# Altium schematic symbol library kmilo17pet-NSC_Amplifier.SchLib: 1665 symbols (part 9 of 44)
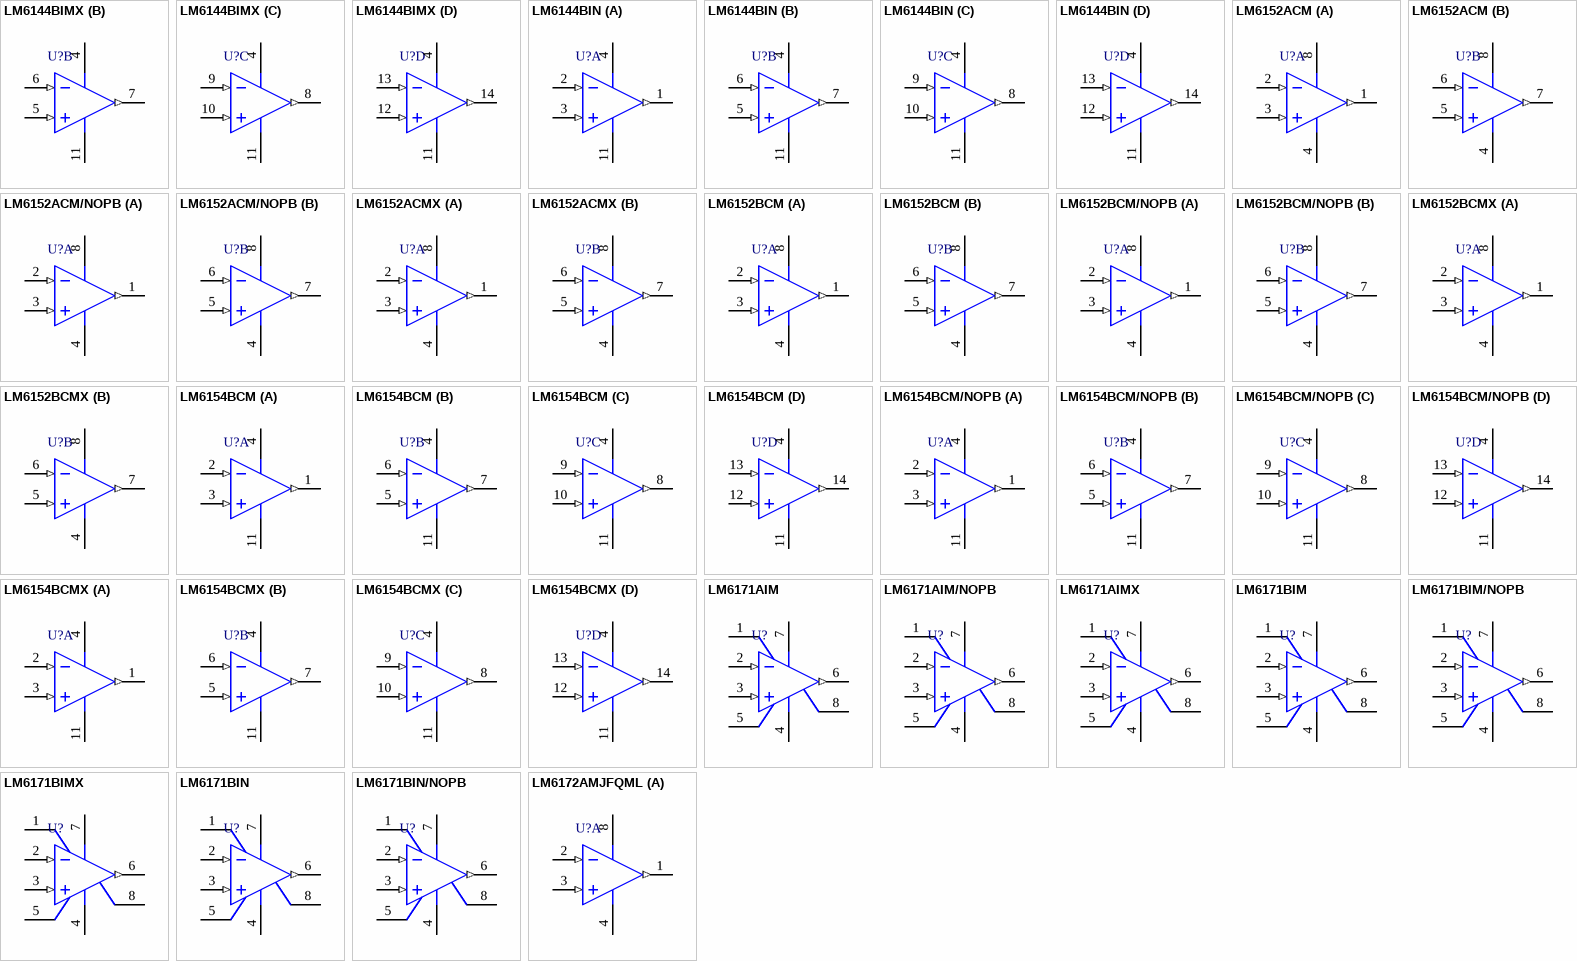
[diagram p92: symbols LM6144BIMX to LM6172AMJFQML]

## LM6154BCM
designator U?
Dual and Quad 75 MHz GBW Rail-to-Rail I/O Operational Amplifiers, 14-pin Narrow SOIC; PartNumber: LM6154BCM; Manufacturer: National Semiconductor; PackageTopMarking: NSUZXYTTE#*LM6154BCM; PowerWise: Y; DatasheetVersion: Feb-2006; PackageVersion: revJ, Jan-1996; PackageReference: M14A; PackageDescription: Molded Package S.O., .150in Wide, 14 Lead; RoHS: N; PinCount: 14; CompType: Amplifiers; High-Reliability: Y; Code_JEDEC: MS-012AB; Code_IPC: SOIC127P600-14; ComponentLink1Description: Manufacturer URL; ComponentLink1URL: http://www.national.com/; ComponentLink2Description: LM6154 Datasheet; ComponentLink2URL: http://www.national.com/ds/LM/LM6154.pdf; ComponentLink3Description: LM6154 Web Page; ComponentLink3URL: http://www.national.com/pf/LM/LM6154.html; ComponentLink4Description: M14A Package Page; ComponentLink4URL: http://www.national.com/packaging/folders/m14a.html
footprint M14A_N (SOIC, 14-Leads, Body 8.6x3.9mm, Pitch 1.27mm, IPC Medium Density)
footprint M14A_L (SOIC, 14-Leads, Body 8.6x3.9mm, Pitch 1.27mm, IPC High Density)
footprint M14A_M (SOIC, 14-Leads, Body 8.6x3.9mm, Pitch 1.27mm, IPC Low Density)
pins on every part: 4 V+ (power), 11 V- (power)
part A pins: 1 OUTA (out), 2 INA- (in), 3 INA+ (in)
part B pins: 5 INB+ (in), 6 INB- (in), 7 OUTB (out)
part C pins: 8 OUTC (out), 9 INC- (in), 10 INC+ (in)
part D pins: 12 IND+ (in), 13 IND- (in), 14 OUTD (out)

## LM6154BCM/NOPB
designator U?
Dual and Quad 75 MHz GBW Rail-to-Rail I/O Operational Amplifiers, 14-pin Narrow SOIC, Pb-Free; PartNumber: LM6154BCM/NOPB; Manufacturer: National Semiconductor; PackageTopMarking: NSUZXYTTE#*LM6154BCM; PowerWise: Y; DatasheetVersion: Feb-2006; PackageVersion: revJ, Jan-1996; PackageReference: M14A; PackageDescription: Molded Package S.O., .150in Wide, 14 Lead; RoHS: Y; PinCount: 14; CompType: Amplifiers; High-Reliability: Y; Code_JEDEC: MS-012AB; Code_IPC: SOIC127P600-14; ComponentLink1Description: Manufacturer URL; ComponentLink1URL: http://www.national.com/; ComponentLink2Description: LM6154 Datasheet; ComponentLink2URL: http://www.national.com/ds/LM/LM6154.pdf; ComponentLink3Description: LM6154 Web Page; ComponentLink3URL: http://www.national.com/pf/LM/LM6154.html; ComponentLink4Description: M14A Package Page; ComponentLink4URL: http://www.national.com/packaging/folders/m14a.html
footprint M14A_N (SOIC, 14-Leads, Body 8.6x3.9mm, Pitch 1.27mm, IPC Medium Density)
footprint M14A_L (SOIC, 14-Leads, Body 8.6x3.9mm, Pitch 1.27mm, IPC High Density)
footprint M14A_M (SOIC, 14-Leads, Body 8.6x3.9mm, Pitch 1.27mm, IPC Low Density)
pins on every part: 4 V+ (power), 11 V- (power)
part A pins: 1 OUTA (out), 2 INA- (in), 3 INA+ (in)
part B pins: 5 INB+ (in), 6 INB- (in), 7 OUTB (out)
part C pins: 8 OUTC (out), 9 INC- (in), 10 INC+ (in)
part D pins: 12 IND+ (in), 13 IND- (in), 14 OUTD (out)

## LM6154BCMX
designator U?
Dual and Quad 75 MHz GBW Rail-to-Rail I/O Operational Amplifiers, 14-pin Narrow SOIC; PartNumber: LM6154BCMX; Manufacturer: National Semiconductor; PackageTopMarking: NSUZXYTTE#*LM6154BCM; PowerWise: Y; DatasheetVersion: Feb-2006; PackageVersion: revJ, Jan-1996; PackageReference: M14A; PackageDescription: Molded Package S.O., .150in Wide, 14 Lead; RoHS: N; PinCount: 14; CompType: Amplifiers; High-Reliability: Y; Code_JEDEC: MS-012AB; Code_IPC: SOIC127P600-14; ComponentLink1Description: Manufacturer URL; ComponentLink1URL: http://www.national.com/; ComponentLink2Description: LM6154 Datasheet; ComponentLink2URL: http://www.national.com/ds/LM/LM6154.pdf; ComponentLink3Description: LM6154 Web Page; ComponentLink3URL: http://www.national.com/pf/LM/LM6154.html; ComponentLink4Description: M14A Package Page; ComponentLink4URL: http://www.national.com/packaging/folders/m14a.html
footprint M14A_N (SOIC, 14-Leads, Body 8.6x3.9mm, Pitch 1.27mm, IPC Medium Density)
footprint M14A_L (SOIC, 14-Leads, Body 8.6x3.9mm, Pitch 1.27mm, IPC High Density)
footprint M14A_M (SOIC, 14-Leads, Body 8.6x3.9mm, Pitch 1.27mm, IPC Low Density)
pins on every part: 4 V+ (power), 11 V- (power)
part A pins: 1 OUTA (out), 2 INA- (in), 3 INA+ (in)
part B pins: 5 INB+ (in), 6 INB- (in), 7 OUTB (out)
part C pins: 8 OUTC (out), 9 INC- (in), 10 INC+ (in)
part D pins: 12 IND+ (in), 13 IND- (in), 14 OUTD (out)

## LM6171AIM
designator U?
High Speed Low Power Low Distortion Voltage Feedback Amplifier, 8-pin Narrow SOIC; PartNumber: LM6171AIM; Manufacturer: National Semiconductor; PackageTopMarking: NSZXTT*LM61*71AIM; PowerWise: Y; CompType: Amplifiers; DatasheetVersion: Feb-2003; PackageVersion: revM, May-2009; PackageReference: M08A; PackageDescription: SOIC Narrow, 4.9 x 3.9 x 1.45mm, 8 Lead, 1.27mm Pitch; RoHS: N; PinCount: 8; High-Reliability: Y; Code_JEDEC: MS-012-AA; Code_IPC: SOIC127P600-8; ComponentLink1Description: Manufacturer URL; ComponentLink1URL: http://www.national.com/; ComponentLink2Description: LM6171 Datasheet; ComponentLink2URL: http://www.national.com/ds/LM/LM6171.pdf; ComponentLink3Description: LM6171 Web Page; ComponentLink3URL: http://www.national.com/pf/LM/LM6171.html; ComponentLink4Description: M08A Package Page; ComponentLink4URL: http://www.national.com/packaging/folders/m08a.html
footprint M08A_N (SOIC, 8-Leads, Body 4.9x3.9mm, Pitch 1.27mm, IPC Medium Density)
footprint M08A_L (SOIC, 8-Leads, Body 4.9x3.9mm, Pitch 1.27mm, IPC High Density)
footprint M08A_M (SOIC, 8-Leads, Body 4.9x3.9mm, Pitch 1.27mm, IPC Low Density)
pins: 1 NC, 2 IN- (in), 3 IN+ (in), 4 V- (power), 5 NC, 6 OUT (out), 7 V+ (power), 8 NC

## LM6171AIM/NOPB
designator U?
High Speed Low Power Low Distortion Voltage Feedback Amplifier, 8-pin Narrow SOIC, Pb-Free; PartNumber: LM6171AIM/NOPB; Manufacturer: National Semiconductor; PackageTopMarking: NSZXTT*LM61*71AIM; PowerWise: Y; CompType: Amplifiers; DatasheetVersion: Feb-2003; PackageVersion: revM, May-2009; PackageReference: M08A; PackageDescription: SOIC Narrow, 4.9 x 3.9 x 1.45mm, 8 Lead, 1.27mm Pitch; RoHS: Y; PinCount: 8; High-Reliability: Y; Code_JEDEC: MS-012-AA; Code_IPC: SOIC127P600-8; ComponentLink1Description: Manufacturer URL; ComponentLink1URL: http://www.national.com/; ComponentLink2Description: LM6171 Datasheet; ComponentLink2URL: http://www.national.com/ds/LM/LM6171.pdf; ComponentLink3Description: LM6171 Web Page; ComponentLink3URL: http://www.national.com/pf/LM/LM6171.html; ComponentLink4Description: M08A Package Page; ComponentLink4URL: http://www.national.com/packaging/folders/m08a.html
footprint M08A_N (SOIC, 8-Leads, Body 4.9x3.9mm, Pitch 1.27mm, IPC Medium Density)
footprint M08A_L (SOIC, 8-Leads, Body 4.9x3.9mm, Pitch 1.27mm, IPC High Density)
footprint M08A_M (SOIC, 8-Leads, Body 4.9x3.9mm, Pitch 1.27mm, IPC Low Density)
pins: 1 NC, 2 IN- (in), 3 IN+ (in), 4 V- (power), 5 NC, 6 OUT (out), 7 V+ (power), 8 NC

## LM6171AIMX
designator U?
High Speed Low Power Low Distortion Voltage Feedback Amplifier, 8-pin Narrow SOIC; PartNumber: LM6171AIMX; Manufacturer: National Semiconductor; PackageTopMarking: NSZXTT*LM61*71AIM; PowerWise: Y; CompType: Amplifiers; DatasheetVersion: Feb-2003; PackageVersion: revM, May-2009; PackageReference: M08A; PackageDescription: SOIC Narrow, 4.9 x 3.9 x 1.45mm, 8 Lead, 1.27mm Pitch; RoHS: N; PinCount: 8; High-Reliability: Y; Code_JEDEC: MS-012-AA; Code_IPC: SOIC127P600-8; ComponentLink1Description: Manufacturer URL; ComponentLink1URL: http://www.national.com/; ComponentLink2Description: LM6171 Datasheet; ComponentLink2URL: http://www.national.com/ds/LM/LM6171.pdf; ComponentLink3Description: LM6171 Web Page; ComponentLink3URL: http://www.national.com/pf/LM/LM6171.html; ComponentLink4Description: M08A Package Page; ComponentLink4URL: http://www.national.com/packaging/folders/m08a.html
footprint M08A_N (SOIC, 8-Leads, Body 4.9x3.9mm, Pitch 1.27mm, IPC Medium Density)
footprint M08A_L (SOIC, 8-Leads, Body 4.9x3.9mm, Pitch 1.27mm, IPC High Density)
footprint M08A_M (SOIC, 8-Leads, Body 4.9x3.9mm, Pitch 1.27mm, IPC Low Density)
pins: 1 NC, 2 IN- (in), 3 IN+ (in), 4 V- (power), 5 NC, 6 OUT (out), 7 V+ (power), 8 NC

## LM6171BIM
designator U?
High Speed Low Power Low Distortion Voltage Feedback Amplifier, 8-pin Narrow SOIC; PartNumber: LM6171BIM; Manufacturer: National Semiconductor; PackageTopMarking: NSZXTT*LM61*71BIM; PowerWise: Y; CompType: Amplifiers; DatasheetVersion: Feb-2003; PackageVersion: revM, May-2009; PackageReference: M08A; PackageDescription: SOIC Narrow, 4.9 x 3.9 x 1.45mm, 8 Lead, 1.27mm Pitch; RoHS: N; PinCount: 8; High-Reliability: Y; Code_JEDEC: MS-012-AA; Code_IPC: SOIC127P600-8; ComponentLink1Description: Manufacturer URL; ComponentLink1URL: http://www.national.com/; ComponentLink2Description: LM6171 Datasheet; ComponentLink2URL: http://www.national.com/ds/LM/LM6171.pdf; ComponentLink3Description: LM6171 Web Page; ComponentLink3URL: http://www.national.com/pf/LM/LM6171.html; ComponentLink4Description: M08A Package Page; ComponentLink4URL: http://www.national.com/packaging/folders/m08a.html
footprint M08A_N (SOIC, 8-Leads, Body 4.9x3.9mm, Pitch 1.27mm, IPC Medium Density)
footprint M08A_L (SOIC, 8-Leads, Body 4.9x3.9mm, Pitch 1.27mm, IPC High Density)
footprint M08A_M (SOIC, 8-Leads, Body 4.9x3.9mm, Pitch 1.27mm, IPC Low Density)
pins: 1 NC, 2 IN- (in), 3 IN+ (in), 4 V- (power), 5 NC, 6 OUT (out), 7 V+ (power), 8 NC

## LM6171BIM/NOPB
designator U?
High Speed Low Power Low Distortion Voltage Feedback Amplifier, 8-pin Narrow SOIC, Pb-Free; PartNumber: LM6171BIM/NOPB; Manufacturer: National Semiconductor; PackageTopMarking: NSZXTT*LM61*71BIM; PowerWise: Y; CompType: Amplifiers; DatasheetVersion: Feb-2003; PackageVersion: revM, May-2009; PackageReference: M08A; PackageDescription: SOIC Narrow, 4.9 x 3.9 x 1.45mm, 8 Lead, 1.27mm Pitch; RoHS: Y; PinCount: 8; High-Reliability: Y; Code_JEDEC: MS-012-AA; Code_IPC: SOIC127P600-8; ComponentLink1Description: Manufacturer URL; ComponentLink1URL: http://www.national.com/; ComponentLink2Description: LM6171 Datasheet; ComponentLink2URL: http://www.national.com/ds/LM/LM6171.pdf; ComponentLink3Description: LM6171 Web Page; ComponentLink3URL: http://www.national.com/pf/LM/LM6171.html; ComponentLink4Description: M08A Package Page; ComponentLink4URL: http://www.national.com/packaging/folders/m08a.html
footprint M08A_N (SOIC, 8-Leads, Body 4.9x3.9mm, Pitch 1.27mm, IPC Medium Density)
footprint M08A_L (SOIC, 8-Leads, Body 4.9x3.9mm, Pitch 1.27mm, IPC High Density)
footprint M08A_M (SOIC, 8-Leads, Body 4.9x3.9mm, Pitch 1.27mm, IPC Low Density)
pins: 1 NC, 2 IN- (in), 3 IN+ (in), 4 V- (power), 5 NC, 6 OUT (out), 7 V+ (power), 8 NC

## LM6171BIMX
designator U?
High Speed Low Power Low Distortion Voltage Feedback Amplifier, 8-pin Narrow SOIC; PartNumber: LM6171BIMX; Manufacturer: National Semiconductor; PackageTopMarking: NSZXTT*LM61*71BIM; PowerWise: Y; CompType: Amplifiers; DatasheetVersion: Feb-2003; PackageVersion: revM, May-2009; PackageReference: M08A; PackageDescription: SOIC Narrow, 4.9 x 3.9 x 1.45mm, 8 Lead, 1.27mm Pitch; RoHS: N; PinCount: 8; High-Reliability: Y; Code_JEDEC: MS-012-AA; Code_IPC: SOIC127P600-8; ComponentLink1Description: Manufacturer URL; ComponentLink1URL: http://www.national.com/; ComponentLink2Description: LM6171 Datasheet; ComponentLink2URL: http://www.national.com/ds/LM/LM6171.pdf; ComponentLink3Description: LM6171 Web Page; ComponentLink3URL: http://www.national.com/pf/LM/LM6171.html; ComponentLink4Description: M08A Package Page; ComponentLink4URL: http://www.national.com/packaging/folders/m08a.html
footprint M08A_N (SOIC, 8-Leads, Body 4.9x3.9mm, Pitch 1.27mm, IPC Medium Density)
footprint M08A_L (SOIC, 8-Leads, Body 4.9x3.9mm, Pitch 1.27mm, IPC High Density)
footprint M08A_M (SOIC, 8-Leads, Body 4.9x3.9mm, Pitch 1.27mm, IPC Low Density)
pins: 1 NC, 2 IN- (in), 3 IN+ (in), 4 V- (power), 5 NC, 6 OUT (out), 7 V+ (power), 8 NC

## LM6171BIN
designator U?
High Speed Low Power Low Distortion Voltage Feedback Amplifier, 8-pin MDIP; PartNumber: LM6171BIN; Manufacturer: National Semiconductor; PackageTopMarking: NSUZXYTTE#*LM6171*BIN; PowerWise: Y; CompType: Amplifiers; DatasheetVersion: Feb-2003; PackageVersion: revG, May-2006; PackageReference: N08E; PackageDescription: MDIP, .365 x .250 x .130in, 8 Lead, .100in Pitch; RoHS: N; PinCount: 8; High-Reliability: Y; Code_JEDEC: MS-001-BA; ComponentLink1Description: Manufacturer URL; ComponentLink1URL: http://www.national.com/; ComponentLink2Description: LM6171 Datasheet; ComponentLink2URL: http://www.national.com/ds/LM/LM6171.pdf; ComponentLink3Description: LM6171 Web Page; ComponentLink3URL: http://www.national.com/pf/LM/LM6171.html; ComponentLink4Description: N08E Package Page; ComponentLink4URL: http://www.national.com/packaging/folders/n08e.html
footprint N08E (DIP, 8-Leads, Row Spacing 7.62mm, Pitch 2.54mm, Body 9.91x6.35mm)
pins: 1 NC, 2 IN- (in), 3 IN+ (in), 4 V- (power), 5 NC, 6 OUT (out), 7 V+ (power), 8 NC

## LM6171BIN/NOPB
designator U?
High Speed Low Power Low Distortion Voltage Feedback Amplifier, 8-pin MDIP, Pb-Free; PartNumber: LM6171BIN/NOPB; Manufacturer: National Semiconductor; PackageTopMarking: NSUZXYTTE#*LM6171*BIN; PowerWise: Y; CompType: Amplifiers; DatasheetVersion: Feb-2003; PackageVersion: revG, May-2006; PackageReference: N08E; PackageDescription: MDIP, .365 x .250 x .130in, 8 Lead, .100in Pitch; RoHS: Y; PinCount: 8; High-Reliability: Y; Code_JEDEC: MS-001-BA; ComponentLink1Description: Manufacturer URL; ComponentLink1URL: http://www.national.com/; ComponentLink2Description: LM6171 Datasheet; ComponentLink2URL: http://www.national.com/ds/LM/LM6171.pdf; ComponentLink3Description: LM6171 Web Page; ComponentLink3URL: http://www.national.com/pf/LM/LM6171.html; ComponentLink4Description: N08E Package Page; ComponentLink4URL: http://www.national.com/packaging/folders/n08e.html
footprint N08E (DIP, 8-Leads, Row Spacing 7.62mm, Pitch 2.54mm, Body 9.91x6.35mm)
pins: 1 NC, 2 IN- (in), 3 IN+ (in), 4 V- (power), 5 NC, 6 OUT (out), 7 V+ (power), 8 NC

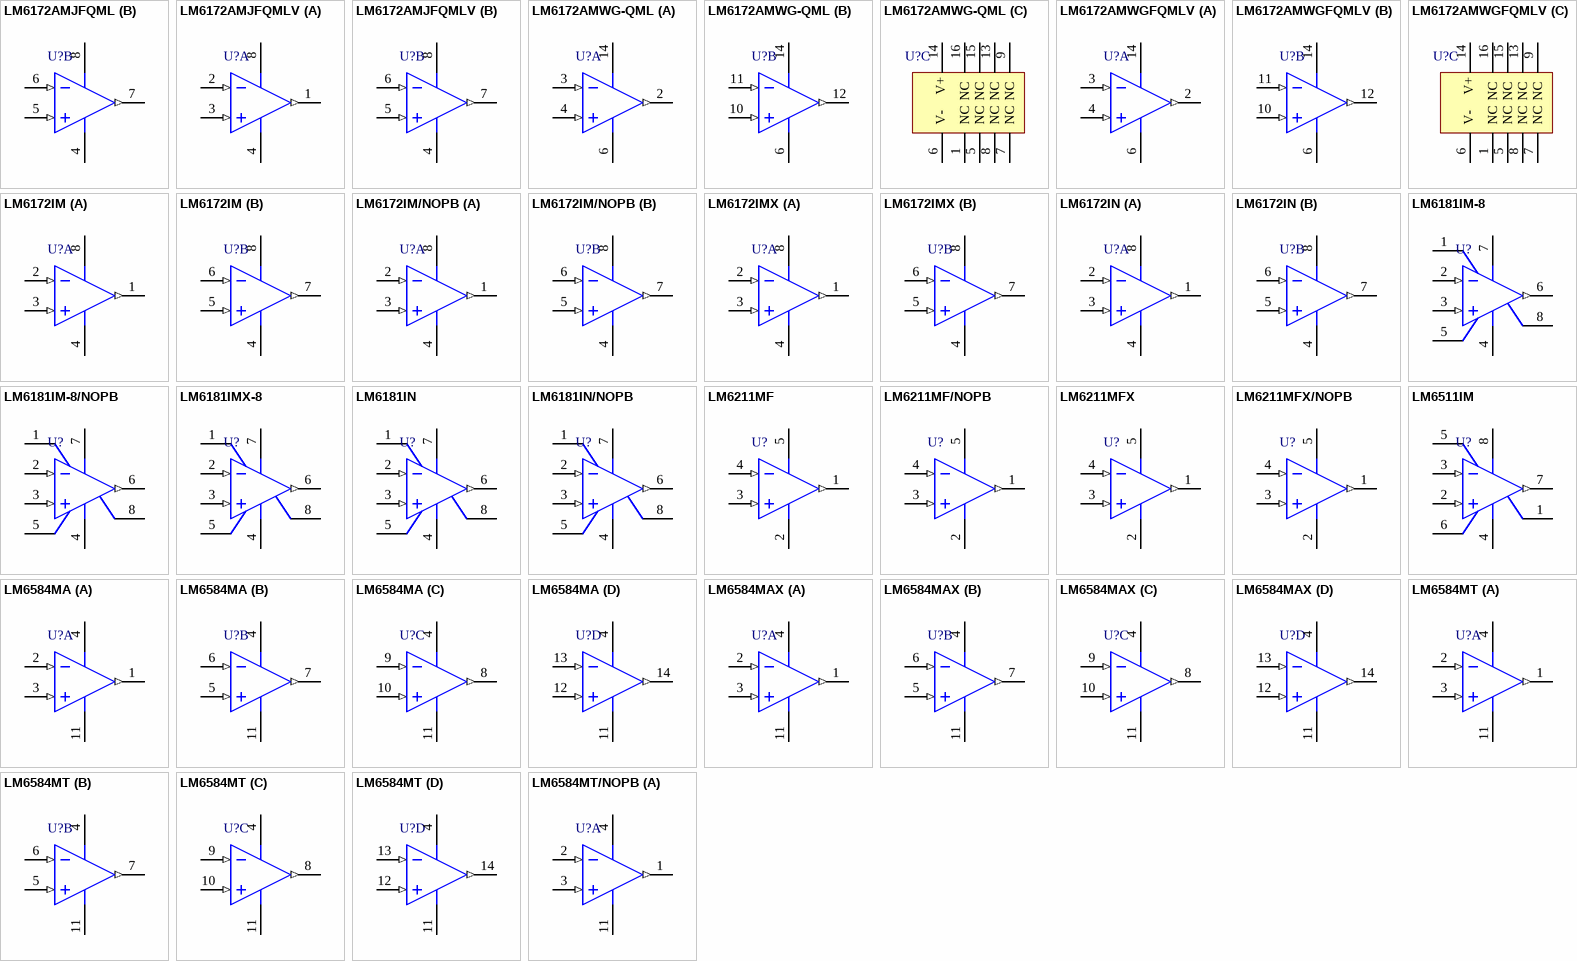
[diagram p21: symbols LM6172AMJFQML to LM6584MT/NOPB]

## LM6172AMJFQML
designator U?
Dual High Speed, Low Power, Low Distortion Voltage Feedback Amplifiers, 8-pin CerDIP; PartNumber: LM6172AMJFQML; Manufacturer: National Semiconductor; PackageTopMarking: NSZSSXXYYA*LM6172AMJF*QML Q 5962F*9560401QPA; PowerWise: Y; DatasheetVersion: Sep-2004; PackageVersion: revM, Jul-2002; PackageReference: J08A; PackageDescription: Cerdip, .400 x .310in Body, 8 Lead, .300in Centers, .100in Pitch; RoHS: N; PinCount: 8; CompType: Amplifiers; High-Reliability: Y; ComponentLink1Description: Manufacturer URL; ComponentLink1URL: http://www.national.com/; ComponentLink2Description: LM6172 Datasheet; ComponentLink2URL: http://www.national.com/ds/LM/LM6172QML.pdf; ComponentLink3Description: LM6172 Web Page; ComponentLink3URL: http://www.national.com/pf/LM/LM6172.html; ComponentLink4Description: J08A Package Page; ComponentLink4URL: http://www.national.com/packaging/folders/j08a.html
footprint J08A (DIP, 8-Leads, Row Spacing 7.62mm, Pitch 2.54mm, Body 9.78x6.73mm)
pins on every part: 4 V- (power), 8 V+ (power)
part A pins: 1 OUTA (out), 2 INA- (in), 3 INA+ (in)
part B pins: 5 INB+ (in), 6 INB- (in), 7 OUTB (out)

## LM6172AMJFQMLV
designator U?
Dual High Speed, Low Power, Low Distortion Voltage Feedback Amplifiers, 8-pin CerDIP; PartNumber: LM6172AMJFQMLV; Manufacturer: National Semiconductor; PackageTopMarking: NSZSSXXYYA*LM6172AMJF*QV Q 5962F*9560401VPA; PowerWise: Y; DatasheetVersion: Sep-2004; PackageVersion: revM, Jul-2002; PackageReference: J08A; PackageDescription: Cerdip, .400 x .310in Body, 8 Lead, .300in Centers, .100in Pitch; RoHS: N; PinCount: 8; CompType: Amplifiers; High-Reliability: Y; ComponentLink1Description: Manufacturer URL; ComponentLink1URL: http://www.national.com/; ComponentLink2Description: LM6172 Datasheet; ComponentLink2URL: http://www.national.com/ds/LM/LM6172QML.pdf; ComponentLink3Description: LM6172 Web Page; ComponentLink3URL: http://www.national.com/pf/LM/LM6172.html; ComponentLink4Description: J08A Package Page; ComponentLink4URL: http://www.national.com/packaging/folders/j08a.html
footprint J08A (DIP, 8-Leads, Row Spacing 7.62mm, Pitch 2.54mm, Body 9.78x6.73mm)
pins on every part: 4 V- (power), 8 V+ (power)
part A pins: 1 OUTA (out), 2 INA- (in), 3 INA+ (in)
part B pins: 5 INB+ (in), 6 INB- (in), 7 OUTB (out)

## LM6172AMWG-QML
designator U?
Dual High Speed, Low Power, Low Distortion Voltage Feedback Amplifier, 16-pin CerPACK; PartNumber: LM6172AMWG-QML; Manufacturer: National Semiconductor; PackageTopMarking: NSZSSXXYYA*LM6172AMWG*-QML 5962-*9560401QXA Q; PowerWise: Y; CompType: Amplifiers; DatasheetVersion: Sep-2004; PackageVersion: revE, Jul-2007; PackageReference: WG16A; PackageDescription: Cerpack, .390 x .250 x .070in, 16 Lead, .050in Pitch, Gull Wing; RoHS: N; PinCount: 16; High-Reliability: Y; ComponentLink1Description: Manufacturer URL; ComponentLink1URL: http://www.national.com/; ComponentLink2Description: LM6172 Datasheet; ComponentLink2URL: http://www.national.com/ds/LM/LM6172QML.pdf; ComponentLink3Description: LM6172 Web Page; ComponentLink3URL: http://www.national.com/pf/LM/LM6172.html; ComponentLink4Description: WG16A Package Page; ComponentLink4URL: http://www.national.com/packaging/folders/wg16a.html
footprint WG16A_N (CERPACK, 16-Leads, Body 9.9x6.5mm, Pitch 1.27mm, IPC Medium Density)
footprint WG16A_L (CERPACK, 16-Leads, Body 9.9x6.5mm, Pitch 1.27mm, IPC High Density)
footprint WG16A_M (CERPACK, 16-Leads, Body 9.9x6.5mm, Pitch 1.27mm, IPC Low Density)
pins on every part: 6 V- (power), 14 V+ (power)
part A pins: 2 OUTA (out), 3 INA- (in), 4 INA+ (in)
part B pins: 10 INB+ (in), 11 INB- (in), 12 OUTB (out)
part C pins: 1 NC, 5 NC, 7 NC, 8 NC, 9 NC, 13 NC, 15 NC, 16 NC

## LM6172AMWGFQMLV
designator U?
Dual High Speed, Low Power, Low Distortion Voltage Feedback Amplifier, 16-pin CerPACK; PartNumber: LM6172AMWGFQMLV; Manufacturer: National Semiconductor; PackageTopMarking: NSZSSXXYYA*LM6172AMWGF*QV Q 5962F*9560401VXA; PowerWise: Y; CompType: Amplifiers; DatasheetVersion: Sep-2004; PackageVersion: revE, Jul-2007; PackageReference: WG16A; PackageDescription: Cerpack, .390 x .250 x .070in, 16 Lead, .050in Pitch, Gull Wing; RoHS: N; PinCount: 16; High-Reliability: Y; ComponentLink1Description: Manufacturer URL; ComponentLink1URL: http://www.national.com/; ComponentLink2Description: LM6172 Datasheet; ComponentLink2URL: http://www.national.com/ds/LM/LM6172QML.pdf; ComponentLink3Description: LM6172 Web Page; ComponentLink3URL: http://www.national.com/pf/LM/LM6172.html; ComponentLink4Description: WG16A Package Page; ComponentLink4URL: http://www.national.com/packaging/folders/wg16a.html
footprint WG16A_N (CERPACK, 16-Leads, Body 9.9x6.5mm, Pitch 1.27mm, IPC Medium Density)
footprint WG16A_L (CERPACK, 16-Leads, Body 9.9x6.5mm, Pitch 1.27mm, IPC High Density)
footprint WG16A_M (CERPACK, 16-Leads, Body 9.9x6.5mm, Pitch 1.27mm, IPC Low Density)
pins on every part: 6 V- (power), 14 V+ (power)
part A pins: 2 OUTA (out), 3 INA- (in), 4 INA+ (in)
part B pins: 10 INB+ (in), 11 INB- (in), 12 OUTB (out)
part C pins: 1 NC, 5 NC, 7 NC, 8 NC, 9 NC, 13 NC, 15 NC, 16 NC

## LM6172IM
designator U?
Dual High Speed, Low Power, Low Distortion Voltage Feedback Amplifiers, 8-pin Narrow SOIC; PartNumber: LM6172IM; Manufacturer: National Semiconductor; PackageTopMarking: NSZXTT*LM61*72IM; PowerWise: Y; DatasheetVersion: Sep-2004; PackageVersion: revM, May-2009; PackageReference: M08A; PackageDescription: SOIC Narrow, 4.9 x 3.9 x 1.45mm, 8 Lead, 1.27mm Pitch; RoHS: N; PinCount: 8; CompType: Amplifiers; High-Reliability: Y; Code_JEDEC: MS-012-AA; Code_IPC: SOIC127P600-8; ComponentLink1Description: Manufacturer URL; ComponentLink1URL: http://www.national.com/; ComponentLink2Description: LM6172 Datasheet; ComponentLink2URL: http://www.national.com/ds/LM/LM6172.pdf; ComponentLink3Description: LM6172 Web Page; ComponentLink3URL: http://www.national.com/pf/LM/LM6172.html; ComponentLink4Description: M08A Package Page; ComponentLink4URL: http://www.national.com/packaging/folders/m08a.html
footprint M08A_N (SOIC, 8-Leads, Body 4.9x3.9mm, Pitch 1.27mm, IPC Medium Density)
footprint M08A_L (SOIC, 8-Leads, Body 4.9x3.9mm, Pitch 1.27mm, IPC High Density)
footprint M08A_M (SOIC, 8-Leads, Body 4.9x3.9mm, Pitch 1.27mm, IPC Low Density)
pins on every part: 4 V- (power), 8 V+ (power)
part A pins: 1 OUTA (out), 2 INA- (in), 3 INA+ (in)
part B pins: 5 INB+ (in), 6 INB- (in), 7 OUTB (out)

## LM6172IM/NOPB
designator U?
Dual High Speed, Low Power, Low Distortion Voltage Feedback Amplifiers, 8-pin Narrow SOIC, Pb-Free; PartNumber: LM6172IM/NOPB; Manufacturer: National Semiconductor; PackageTopMarking: NSZXTT*LM61*72IM; PowerWise: Y; DatasheetVersion: Sep-2004; PackageVersion: revM, May-2009; PackageReference: M08A; PackageDescription: SOIC Narrow, 4.9 x 3.9 x 1.45mm, 8 Lead, 1.27mm Pitch; RoHS: Y; PinCount: 8; CompType: Amplifiers; High-Reliability: Y; Code_JEDEC: MS-012-AA; Code_IPC: SOIC127P600-8; ComponentLink1Description: Manufacturer URL; ComponentLink1URL: http://www.national.com/; ComponentLink2Description: LM6172 Datasheet; ComponentLink2URL: http://www.national.com/ds/LM/LM6172.pdf; ComponentLink3Description: LM6172 Web Page; ComponentLink3URL: http://www.national.com/pf/LM/LM6172.html; ComponentLink4Description: M08A Package Page; ComponentLink4URL: http://www.national.com/packaging/folders/m08a.html
footprint M08A_N (SOIC, 8-Leads, Body 4.9x3.9mm, Pitch 1.27mm, IPC Medium Density)
footprint M08A_L (SOIC, 8-Leads, Body 4.9x3.9mm, Pitch 1.27mm, IPC High Density)
footprint M08A_M (SOIC, 8-Leads, Body 4.9x3.9mm, Pitch 1.27mm, IPC Low Density)
pins on every part: 4 V- (power), 8 V+ (power)
part A pins: 1 OUTA (out), 2 INA- (in), 3 INA+ (in)
part B pins: 5 INB+ (in), 6 INB- (in), 7 OUTB (out)

## LM6172IMX
designator U?
Dual High Speed, Low Power, Low Distortion Voltage Feedback Amplifiers, 8-pin Narrow SOIC; PartNumber: LM6172IMX; Manufacturer: National Semiconductor; PackageTopMarking: NSZXTT*LM61*72IM; PowerWise: Y; DatasheetVersion: Sep-2004; PackageVersion: revM, May-2009; PackageReference: M08A; PackageDescription: SOIC Narrow, 4.9 x 3.9 x 1.45mm, 8 Lead, 1.27mm Pitch; RoHS: N; PinCount: 8; CompType: Amplifiers; High-Reliability: Y; Code_JEDEC: MS-012-AA; Code_IPC: SOIC127P600-8; ComponentLink1Description: Manufacturer URL; ComponentLink1URL: http://www.national.com/; ComponentLink2Description: LM6172 Datasheet; ComponentLink2URL: http://www.national.com/ds/LM/LM6172.pdf; ComponentLink3Description: LM6172 Web Page; ComponentLink3URL: http://www.national.com/pf/LM/LM6172.html; ComponentLink4Description: M08A Package Page; ComponentLink4URL: http://www.national.com/packaging/folders/m08a.html
footprint M08A_N (SOIC, 8-Leads, Body 4.9x3.9mm, Pitch 1.27mm, IPC Medium Density)
footprint M08A_L (SOIC, 8-Leads, Body 4.9x3.9mm, Pitch 1.27mm, IPC High Density)
footprint M08A_M (SOIC, 8-Leads, Body 4.9x3.9mm, Pitch 1.27mm, IPC Low Density)
pins on every part: 4 V- (power), 8 V+ (power)
part A pins: 1 OUTA (out), 2 INA- (in), 3 INA+ (in)
part B pins: 5 INB+ (in), 6 INB- (in), 7 OUTB (out)

## LM6172IN
designator U?
Dual High Speed, Low Power, Low Distortion Voltage Feedback Amplifiers, 8-pin MDIP; PartNumber: LM6172IN; Manufacturer: National Semiconductor; PackageTopMarking: NSUZXYTTE#*LM6172IN; PowerWise: Y; DatasheetVersion: Sep-2004; PackageVersion: revG, May-2006; PackageReference: N08E; PackageDescription: MDIP, .365 x .250 x .130in, 8 Lead, .100in Pitch; RoHS: N; PinCount: 8; CompType: Amplifiers; High-Reliability: Y; Code_JEDEC: MS-001-BA; ComponentLink1Description: Manufacturer URL; ComponentLink1URL: http://www.national.com/; ComponentLink2Description: LM6172 Datasheet; ComponentLink2URL: http://www.national.com/ds/LM/LM6172.pdf; ComponentLink3Description: LM6172 Web Page; ComponentLink3URL: http://www.national.com/pf/LM/LM6172.html; ComponentLink4Description: N08E Package Page; ComponentLink4URL: http://www.national.com/packaging/folders/n08e.html
footprint N08E (DIP, 8-Leads, Row Spacing 7.62mm, Pitch 2.54mm, Body 9.91x6.35mm)
pins on every part: 4 V- (power), 8 V+ (power)
part A pins: 1 OUTA (out), 2 INA- (in), 3 INA+ (in)
part B pins: 5 INB+ (in), 6 INB- (in), 7 OUTB (out)

## LM6181IM-8
designator U?
100 mA, 100 MHz Current Feedback Amplifier, 8-pin Narrow SOIC; PartNumber: LM6181IM-8; Manufacturer: National Semiconductor; PackageTopMarking: NSZXTT*LM618*1IM8; PowerWise: N; CompType: Amplifiers; High-Reliability: Y; DatasheetVersion: May-1998; PackageVersion: revM, May-2009; PackageReference: M08A; PackageDescription: SOIC Narrow, 4.9 x 3.9 x 1.45mm, 8 Lead, 1.27mm Pitch; RoHS: N; PinCount: 8; Code_JEDEC: MS-012-AA; Code_IPC: SOIC127P600-8; ComponentLink1Description: Manufacturer URL; ComponentLink1URL: http://www.national.com/; ComponentLink2Description: LM6181 Datasheet; ComponentLink2URL: http://www.national.com/ds/LM/LM6181.pdf; ComponentLink3Description: LM6181 Web Page; ComponentLink3URL: http://www.national.com/pf/LM/LM6181.html; ComponentLink4Description: M08A Package Page; ComponentLink4URL: http://www.national.com/packaging/folders/m08a.html
footprint M08A_N (SOIC, 8-Leads, Body 4.9x3.9mm, Pitch 1.27mm, IPC Medium Density)
footprint M08A_L (SOIC, 8-Leads, Body 4.9x3.9mm, Pitch 1.27mm, IPC High Density)
footprint M08A_M (SOIC, 8-Leads, Body 4.9x3.9mm, Pitch 1.27mm, IPC Low Density)
pins: 1 NC, 2 IN- (in), 3 IN+ (in), 4 V- (power), 5 NC, 6 OUT (out), 7 V+ (power), 8 NC

## LM6181IM-8/NOPB
designator U?
100 mA, 100 MHz Current Feedback Amplifier, 8-pin Narrow SOIC, Pb-Free; PartNumber: LM6181IM-8/NOPB; Manufacturer: National Semiconductor; PackageTopMarking: NSZXTT*LM618*1IM8; PowerWise: N; CompType: Amplifiers; High-Reliability: Y; DatasheetVersion: May-1998; PackageVersion: revM, May-2009; PackageReference: M08A; PackageDescription: SOIC Narrow, 4.9 x 3.9 x 1.45mm, 8 Lead, 1.27mm Pitch; RoHS: Y; PinCount: 8; Code_JEDEC: MS-012-AA; Code_IPC: SOIC127P600-8; ComponentLink1Description: Manufacturer URL; ComponentLink1URL: http://www.national.com/; ComponentLink2Description: LM6181 Datasheet; ComponentLink2URL: http://www.national.com/ds/LM/LM6181.pdf; ComponentLink3Description: LM6181 Web Page; ComponentLink3URL: http://www.national.com/pf/LM/LM6181.html; ComponentLink4Description: M08A Package Page; ComponentLink4URL: http://www.national.com/packaging/folders/m08a.html
footprint M08A_N (SOIC, 8-Leads, Body 4.9x3.9mm, Pitch 1.27mm, IPC Medium Density)
footprint M08A_L (SOIC, 8-Leads, Body 4.9x3.9mm, Pitch 1.27mm, IPC High Density)
footprint M08A_M (SOIC, 8-Leads, Body 4.9x3.9mm, Pitch 1.27mm, IPC Low Density)
pins: 1 NC, 2 IN- (in), 3 IN+ (in), 4 V- (power), 5 NC, 6 OUT (out), 7 V+ (power), 8 NC

## LM6181IMX-8
designator U?
100 mA, 100 MHz Current Feedback Amplifier, 8-pin Narrow SOIC; PartNumber: LM6181IMX-8; Manufacturer: National Semiconductor; PackageTopMarking: NSZXTT*LM618*1IM8; PowerWise: N; CompType: Amplifiers; High-Reliability: Y; DatasheetVersion: May-1998; PackageVersion: revM, May-2009; PackageReference: M08A; PackageDescription: SOIC Narrow, 4.9 x 3.9 x 1.45mm, 8 Lead, 1.27mm Pitch; RoHS: N; PinCount: 8; Code_JEDEC: MS-012-AA; Code_IPC: SOIC127P600-8; ComponentLink1Description: Manufacturer URL; ComponentLink1URL: http://www.national.com/; ComponentLink2Description: LM6181 Datasheet; ComponentLink2URL: http://www.national.com/ds/LM/LM6181.pdf; ComponentLink3Description: LM6181 Web Page; ComponentLink3URL: http://www.national.com/pf/LM/LM6181.html; ComponentLink4Description: M08A Package Page; ComponentLink4URL: http://www.national.com/packaging/folders/m08a.html
footprint M08A_N (SOIC, 8-Leads, Body 4.9x3.9mm, Pitch 1.27mm, IPC Medium Density)
footprint M08A_L (SOIC, 8-Leads, Body 4.9x3.9mm, Pitch 1.27mm, IPC High Density)
footprint M08A_M (SOIC, 8-Leads, Body 4.9x3.9mm, Pitch 1.27mm, IPC Low Density)
pins: 1 NC, 2 IN- (in), 3 IN+ (in), 4 V- (power), 5 NC, 6 OUT (out), 7 V+ (power), 8 NC

## LM6181IN
designator U?
100 mA, 100 MHz Current Feedback Amplifier, 8-pin MDIP; PartNumber: LM6181IN; Manufacturer: National Semiconductor; PackageTopMarking: NSUZXYTTE#*LM6181IN; PowerWise: N; CompType: Amplifiers; High-Reliability: Y; DatasheetVersion: May-1998; PackageVersion: revG, May-2006; PackageReference: N08E; PackageDescription: MDIP, .365 x .250 x .130in, 8 Lead, .100in Pitch; RoHS: N; PinCount: 8; Code_JEDEC: MS-001-BA; ComponentLink1Description: Manufacturer URL; ComponentLink1URL: http://www.national.com/; ComponentLink2Description: LM6181 Datasheet; ComponentLink2URL: http://www.national.com/ds/LM/LM6181.pdf; ComponentLink3Description: LM6181 Web Page; ComponentLink3URL: http://www.national.com/pf/LM/LM6181.html; ComponentLink4Description: N08E Package Page; ComponentLink4URL: http://www.national.com/packaging/folders/n08e.html
footprint N08E (DIP, 8-Leads, Row Spacing 7.62mm, Pitch 2.54mm, Body 9.91x6.35mm)
pins: 1 NC, 2 IN- (in), 3 IN+ (in), 4 V- (power), 5 NC, 6 OUT (out), 7 V+ (power), 8 NC

## LM6181IN/NOPB
designator U?
100 mA, 100 MHz Current Feedback Amplifier, 8-pin MDIP, Pb-Free; PartNumber: LM6181IN/NOPB; Manufacturer: National Semiconductor; PackageTopMarking: NSUZXYTTE#*LM6181IN; PowerWise: N; CompType: Amplifiers; High-Reliability: Y; DatasheetVersion: May-1998; PackageVersion: revG, May-2006; PackageReference: N08E; PackageDescription: MDIP, .365 x .250 x .130in, 8 Lead, .100in Pitch; RoHS: Y; PinCount: 8; Code_JEDEC: MS-001-BA; ComponentLink1Description: Manufacturer URL; ComponentLink1URL: http://www.national.com/; ComponentLink2Description: LM6181 Datasheet; ComponentLink2URL: http://www.national.com/ds/LM/LM6181.pdf; ComponentLink3Description: LM6181 Web Page; ComponentLink3URL: http://www.national.com/pf/LM/LM6181.html; ComponentLink4Description: N08E Package Page; ComponentLink4URL: http://www.national.com/packaging/folders/n08e.html
footprint N08E (DIP, 8-Leads, Row Spacing 7.62mm, Pitch 2.54mm, Body 9.91x6.35mm)
pins: 1 NC, 2 IN- (in), 3 IN+ (in), 4 V- (power), 5 NC, 6 OUT (out), 7 V+ (power), 8 NC

## LM6211MF
designator U?
Low Noise, RRO Operational Amplifier with CMOS Input and 24V Operation, 5-pin SOT-23; PartNumber: LM6211MF; Manufacturer: National Semiconductor; PackageTopMarking: AT1A*XTT; PowerWise: Y; CompType: Amplifiers; DatasheetVersion: Jun-2006; PackageVersion: revD, Aug-2008; PackageReference: MF05A; PackageDescription: Molded SOT-23, .115 x .063 x .040 in Body, 5 Lead, .0375 in Pitch; RoHS: N; PinCount: 5; High-Reliability: Y; ComponentLink1Description: Manufacturer URL; ComponentLink1URL: http://www.national.com/; ComponentLink2Description: LM6211 Datasheet; ComponentLink2URL: http://www.national.com/ds/LM/LM6211.pdf; ComponentLink3Description: LM6211 Web Page; ComponentLink3URL: http://www.national.com/pf/LM/LM6211.html; ComponentLink4Description: MF05A Package Page; ComponentLink4URL: http://www.national.com/packaging/folders/mf05a.html
footprint MF05A_N (SOT23, 5-Leads, Body 2.9x1.6mm, Pitch 0.95mm, Lead Span 2.8mm, IPC Medium Density)
footprint MF05A_L (SOT23, 5-Leads, Body 2.9x1.6mm, Pitch 0.95mm, Lead Span 2.8mm, IPC High Density)
footprint MF05A_M (SOT23, 5-Leads, Body 2.9x1.6mm, Pitch 0.95mm, Lead Span 2.8mm, IPC Low Density)
pins: 1 VOUT (out), 2 V- (power), 3 IN+ (in), 4 IN- (in), 5 V+ (power)

## LM6211MF/NOPB
designator U?
Low Noise, RRO Operational Amplifier with CMOS Input and 24V Operation, 5-pin SOT-23, Pb-Free; PartNumber: LM6211MF/NOPB; Manufacturer: National Semiconductor; PackageTopMarking: AT1A*XTT; PowerWise: Y; CompType: Amplifiers; DatasheetVersion: Jun-2006; PackageVersion: revD, Aug-2008; PackageReference: MF05A; PackageDescription: Molded SOT-23, .115 x .063 x .040 in Body, 5 Lead, .0375 in Pitch; RoHS: Y; PinCount: 5; High-Reliability: Y; ComponentLink1Description: Manufacturer URL; ComponentLink1URL: http://www.national.com/; ComponentLink2Description: LM6211 Datasheet; ComponentLink2URL: http://www.national.com/ds/LM/LM6211.pdf; ComponentLink3Description: LM6211 Web Page; ComponentLink3URL: http://www.national.com/pf/LM/LM6211.html; ComponentLink4Description: MF05A Package Page; ComponentLink4URL: http://www.national.com/packaging/folders/mf05a.html
footprint MF05A_N (SOT23, 5-Leads, Body 2.9x1.6mm, Pitch 0.95mm, Lead Span 2.8mm, IPC Medium Density)
footprint MF05A_L (SOT23, 5-Leads, Body 2.9x1.6mm, Pitch 0.95mm, Lead Span 2.8mm, IPC High Density)
footprint MF05A_M (SOT23, 5-Leads, Body 2.9x1.6mm, Pitch 0.95mm, Lead Span 2.8mm, IPC Low Density)
pins: 1 VOUT (out), 2 V- (power), 3 IN+ (in), 4 IN- (in), 5 V+ (power)

## LM6211MFX
designator U?
Low Noise, RRO Operational Amplifier with CMOS Input and 24V Operation, 5-pin SOT-23; PartNumber: LM6211MFX; Manufacturer: National Semiconductor; PackageTopMarking: AT1A*XTT; PowerWise: Y; CompType: Amplifiers; DatasheetVersion: Jun-2006; PackageVersion: revD, Aug-2008; PackageReference: MF05A; PackageDescription: Molded SOT-23, .115 x .063 x .040 in Body, 5 Lead, .0375 in Pitch; RoHS: N; PinCount: 5; High-Reliability: Y; ComponentLink1Description: Manufacturer URL; ComponentLink1URL: http://www.national.com/; ComponentLink2Description: LM6211 Datasheet; ComponentLink2URL: http://www.national.com/ds/LM/LM6211.pdf; ComponentLink3Description: LM6211 Web Page; ComponentLink3URL: http://www.national.com/pf/LM/LM6211.html; ComponentLink4Description: MF05A Package Page; ComponentLink4URL: http://www.national.com/packaging/folders/mf05a.html
footprint MF05A_N (SOT23, 5-Leads, Body 2.9x1.6mm, Pitch 0.95mm, Lead Span 2.8mm, IPC Medium Density)
footprint MF05A_L (SOT23, 5-Leads, Body 2.9x1.6mm, Pitch 0.95mm, Lead Span 2.8mm, IPC High Density)
footprint MF05A_M (SOT23, 5-Leads, Body 2.9x1.6mm, Pitch 0.95mm, Lead Span 2.8mm, IPC Low Density)
pins: 1 VOUT (out), 2 V- (power), 3 IN+ (in), 4 IN- (in), 5 V+ (power)

## LM6211MFX/NOPB
designator U?
Low Noise, RRO Operational Amplifier with CMOS Input and 24V Operation, 5-pin SOT-23, Pb-Free; PartNumber: LM6211MFX/NOPB; Manufacturer: National Semiconductor; PackageTopMarking: AT1A*XTT; PowerWise: Y; CompType: Amplifiers; DatasheetVersion: Jun-2006; PackageVersion: revD, Aug-2008; PackageReference: MF05A; PackageDescription: Molded SOT-23, .115 x .063 x .040 in Body, 5 Lead, .0375 in Pitch; RoHS: Y; PinCount: 5; High-Reliability: Y; ComponentLink1Description: Manufacturer URL; ComponentLink1URL: http://www.national.com/; ComponentLink2Description: LM6211 Datasheet; ComponentLink2URL: http://www.national.com/ds/LM/LM6211.pdf; ComponentLink3Description: LM6211 Web Page; ComponentLink3URL: http://www.national.com/pf/LM/LM6211.html; ComponentLink4Description: MF05A Package Page; ComponentLink4URL: http://www.national.com/packaging/folders/mf05a.html
footprint MF05A_N (SOT23, 5-Leads, Body 2.9x1.6mm, Pitch 0.95mm, Lead Span 2.8mm, IPC Medium Density)
footprint MF05A_L (SOT23, 5-Leads, Body 2.9x1.6mm, Pitch 0.95mm, Lead Span 2.8mm, IPC High Density)
footprint MF05A_M (SOT23, 5-Leads, Body 2.9x1.6mm, Pitch 0.95mm, Lead Span 2.8mm, IPC Low Density)
pins: 1 VOUT (out), 2 V- (power), 3 IN+ (in), 4 IN- (in), 5 V+ (power)

## LM6511IM
designator U?
180 ns 3V Comparator, 8-pin Narrow SOIC; PartNumber: LM6511IM; Manufacturer: National Semiconductor; PackageTopMarking: NSZXTT*LM65*11IM; PowerWise: N; CompType: Amplifiers; High-Reliability: Y; DatasheetVersion: Mar-2003; PackageVersion: revM, May-2009; PackageReference: M08A; PackageDescription: SOIC Narrow, 4.9 x 3.9 x 1.45mm, 8 Lead, 1.27mm Pitch; RoHS: N; PinCount: 8; Code_JEDEC: MS-012-AA; Code_IPC: SOIC127P600-8; ComponentLink1Description: Manufacturer URL; ComponentLink1URL: http://www.national.com/; ComponentLink2Description: LM6511 Datasheet; ComponentLink2URL: http://www.national.com/ds/LM/LM6511.pdf; ComponentLink3Description: LM6511 Web Page; ComponentLink3URL: http://www.national.com/pf/LM/LM6511.html; ComponentLink4Description: M08A Package Page; ComponentLink4URL: http://www.national.com/packaging/folders/m08a.html
footprint M08A_N (SOIC, 8-Leads, Body 4.9x3.9mm, Pitch 1.27mm, IPC Medium Density)
footprint M08A_L (SOIC, 8-Leads, Body 4.9x3.9mm, Pitch 1.27mm, IPC High Density)
footprint M08A_M (SOIC, 8-Leads, Body 4.9x3.9mm, Pitch 1.27mm, IPC Low Density)
pins: 1 GND (power), 2 IN+ (in), 3 IN- (in), 4 V- (power), 5 BAL, 6 BAL/STB, 7 OUT (out), 8 V+ (power)

## LM6584MA
designator U?
TFT-LCD Quad, 13V RRIO High Output Current Operational Amplifier, 14-pin Narrow SOIC; PartNumber: LM6584MA; Manufacturer: National Semiconductor; PackageTopMarking: NSUZXYTTE#*LM6584MA; PowerWise: N; CompType: Amplifiers; High-Reliability: Y; DatasheetVersion: Mar-2005; PackageVersion: revJ, Jan-1996; PackageReference: M14A; PackageDescription: Molded Package S.O., .150in Wide, 14 Lead; RoHS: N; PinCount: 14; Code_JEDEC: MS-012AB; Code_IPC: SOIC127P600-14; ComponentLink1Description: Manufacturer URL; ComponentLink1URL: http://www.national.com/; ComponentLink2Description: LM6584 Datasheet; ComponentLink2URL: http://www.national.com/ds/LM/LM6584.pdf; ComponentLink3Description: LM6584 Web Page; ComponentLink3URL: http://www.national.com/pf/LM/LM6584.html; ComponentLink4Description: M14A Package Page; ComponentLink4URL: http://www.national.com/packaging/folders/m14a.html
footprint M14A_N (SOIC, 14-Leads, Body 8.6x3.9mm, Pitch 1.27mm, IPC Medium Density)
footprint M14A_L (SOIC, 14-Leads, Body 8.6x3.9mm, Pitch 1.27mm, IPC High Density)
footprint M14A_M (SOIC, 14-Leads, Body 8.6x3.9mm, Pitch 1.27mm, IPC Low Density)
pins on every part: 4 V+ (power), 11 V- (power)
part A pins: 1 OUTA (out), 2 INA- (in), 3 INA+ (in)
part B pins: 5 INB+ (in), 6 INB- (in), 7 OUTB (out)
part C pins: 8 OUTC (out), 9 INC- (in), 10 INC+ (in)
part D pins: 12 IND+ (in), 13 IND- (in), 14 OUTD (out)

## LM6584MAX
designator U?
TFT-LCD Quad, 13V RRIO High Output Current Operational Amplifier, 14-pin Narrow SOIC; PartNumber: LM6584MAX; Manufacturer: National Semiconductor; PackageTopMarking: NSUZXYTTE#*LM6584MA; PowerWise: N; CompType: Amplifiers; High-Reliability: Y; DatasheetVersion: Mar-2005; PackageVersion: revJ, Jan-1996; PackageReference: M14A; PackageDescription: Molded Package S.O., .150in Wide, 14 Lead; RoHS: N; PinCount: 14; Code_JEDEC: MS-012AB; Code_IPC: SOIC127P600-14; ComponentLink1Description: Manufacturer URL; ComponentLink1URL: http://www.national.com/; ComponentLink2Description: LM6584 Datasheet; ComponentLink2URL: http://www.national.com/ds/LM/LM6584.pdf; ComponentLink3Description: LM6584 Web Page; ComponentLink3URL: http://www.national.com/pf/LM/LM6584.html; ComponentLink4Description: M14A Package Page; ComponentLink4URL: http://www.national.com/packaging/folders/m14a.html
footprint M14A_N (SOIC, 14-Leads, Body 8.6x3.9mm, Pitch 1.27mm, IPC Medium Density)
footprint M14A_L (SOIC, 14-Leads, Body 8.6x3.9mm, Pitch 1.27mm, IPC High Density)
footprint M14A_M (SOIC, 14-Leads, Body 8.6x3.9mm, Pitch 1.27mm, IPC Low Density)
pins on every part: 4 V+ (power), 11 V- (power)
part A pins: 1 OUTA (out), 2 INA- (in), 3 INA+ (in)
part B pins: 5 INB+ (in), 6 INB- (in), 7 OUTB (out)
part C pins: 8 OUTC (out), 9 INC- (in), 10 INC+ (in)
part D pins: 12 IND+ (in), 13 IND- (in), 14 OUTD (out)

## LM6584MT
designator U?
TFT-LCD Quad, 13V RRIO High Output Current Operational Amplifier, 14-pin TSSOP; PartNumber: LM6584MT; Manufacturer: National Semiconductor; PackageTopMarking: NSZXYTT*LM658*4MT; PowerWise: N; CompType: Amplifiers; High-Reliability: Y; DatasheetVersion: Mar-2005; PackageVersion: revD, Jun-2003; PackageReference: MTC14; PackageDescription: Molded TSSOP, JEDEC, 5 x 4.4 x 0.9mm Body, 14 Lead, 0.65mm Pitch; RoHS: N; PinCount: 14; Code_JEDEC: MO-153-AB-1; ComponentLink1Description: Manufacturer URL; ComponentLink1URL: http://www.national.com/; ComponentLink2Description: LM6584 Datasheet; ComponentLink2URL: http://www.national.com/ds/LM/LM6584.pdf; ComponentLink3Description: LM6584 Web Page; ComponentLink3URL: http://www.national.com/pf/LM/LM6584.html; ComponentLink4Description: MTC14 Package Page; ComponentLink4URL: http://www.national.com/packaging/folders/mtc14.html
footprint MTC14_N (TSOP, 14-Leads, Body 5x4.4mm, Pitch 0.65mm, IPC Medium Density)
footprint MTC14_L (TSOP, 14-Leads, Body 5x4.4mm, Pitch 0.65mm, IPC High Density)
footprint MTC14_M (TSOP, 14-Leads, Body 5x4.4mm, Pitch 0.65mm, IPC Low Density)
pins on every part: 4 V+ (power), 11 V- (power)
part A pins: 1 OUTA (out), 2 INA- (in), 3 INA+ (in)
part B pins: 5 INB+ (in), 6 INB- (in), 7 OUTB (out)
part C pins: 8 OUTC (out), 9 INC- (in), 10 INC+ (in)
part D pins: 12 IND+ (in), 13 IND- (in), 14 OUTD (out)

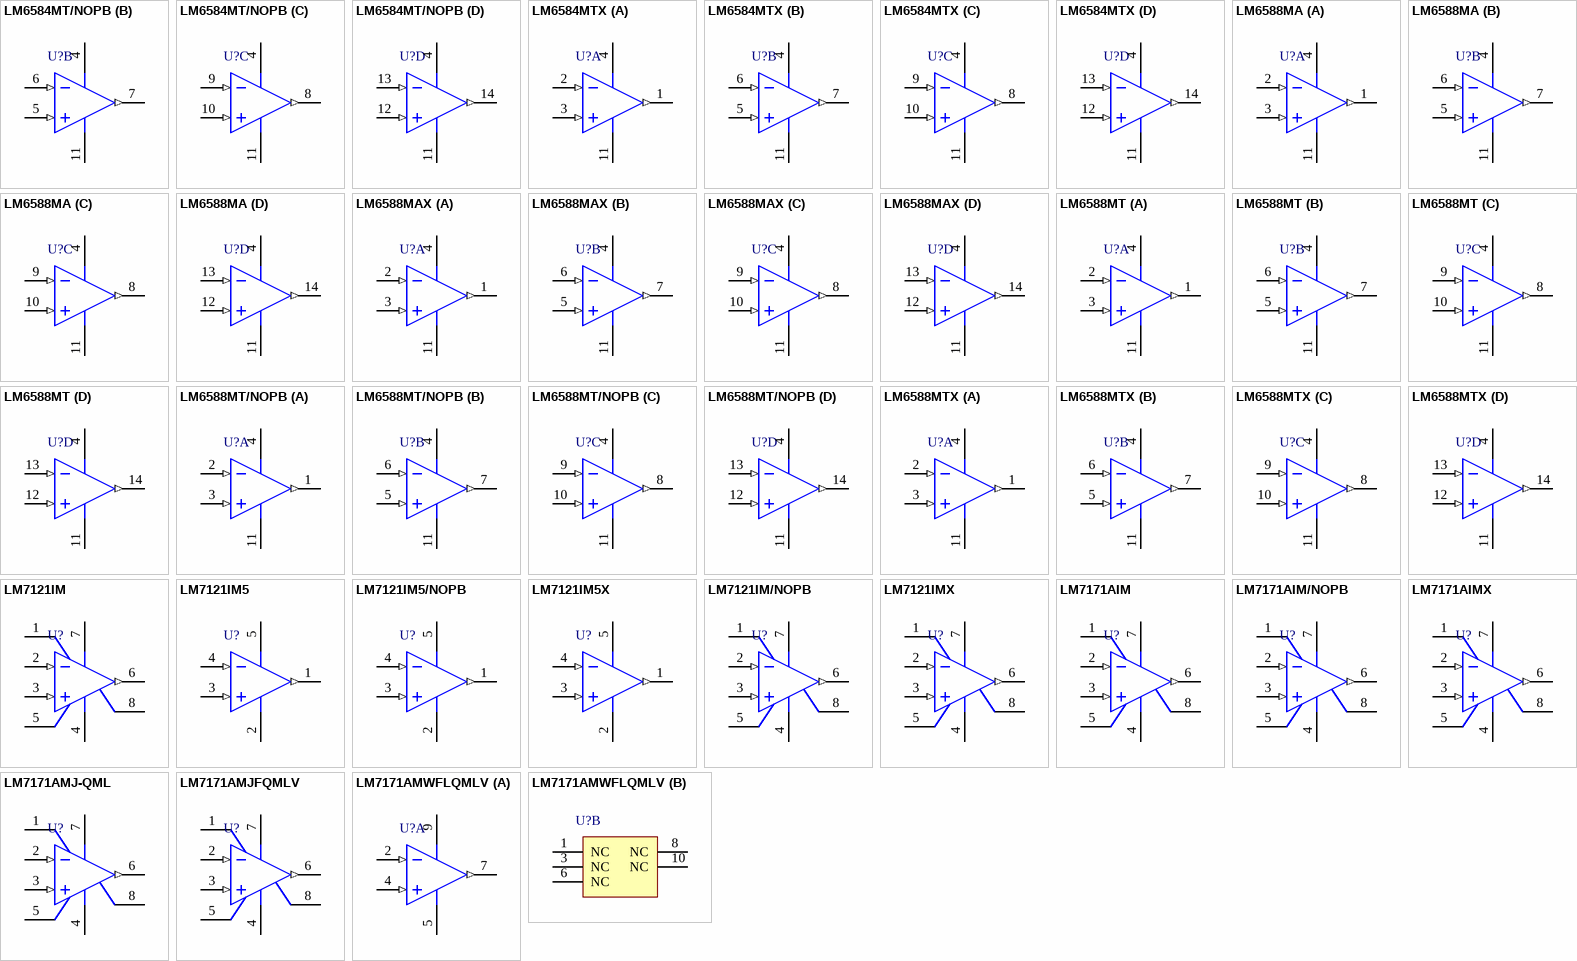
[diagram p22: symbols LM6584MT/NOPB to LM7171AMWFLQMLV]

## LM6584MT/NOPB
designator U?
TFT-LCD Quad, 13V RRIO High Output Current Operational Amplifier, 14-pin TSSOP, Pb-Free; PartNumber: LM6584MT/NOPB; Manufacturer: National Semiconductor; PackageTopMarking: NSZXYTT*LM658*4MT; PowerWise: N; CompType: Amplifiers; High-Reliability: Y; DatasheetVersion: Mar-2005; PackageVersion: revD, Jun-2003; PackageReference: MTC14; PackageDescription: Molded TSSOP, JEDEC, 5 x 4.4 x 0.9mm Body, 14 Lead, 0.65mm Pitch; RoHS: Y; PinCount: 14; Code_JEDEC: MO-153-AB-1; ComponentLink1Description: Manufacturer URL; ComponentLink1URL: http://www.national.com/; ComponentLink2Description: LM6584 Datasheet; ComponentLink2URL: http://www.national.com/ds/LM/LM6584.pdf; ComponentLink3Description: LM6584 Web Page; ComponentLink3URL: http://www.national.com/pf/LM/LM6584.html; ComponentLink4Description: MTC14 Package Page; ComponentLink4URL: http://www.national.com/packaging/folders/mtc14.html
footprint MTC14_N (TSOP, 14-Leads, Body 5x4.4mm, Pitch 0.65mm, IPC Medium Density)
footprint MTC14_L (TSOP, 14-Leads, Body 5x4.4mm, Pitch 0.65mm, IPC High Density)
footprint MTC14_M (TSOP, 14-Leads, Body 5x4.4mm, Pitch 0.65mm, IPC Low Density)
pins on every part: 4 V+ (power), 11 V- (power)
part A pins: 1 OUTA (out), 2 INA- (in), 3 INA+ (in)
part B pins: 5 INB+ (in), 6 INB- (in), 7 OUTB (out)
part C pins: 8 OUTC (out), 9 INC- (in), 10 INC+ (in)
part D pins: 12 IND+ (in), 13 IND- (in), 14 OUTD (out)

## LM6584MTX
designator U?
TFT-LCD Quad, 13V RRIO High Output Current Operational Amplifier, 14-pin TSSOP; PartNumber: LM6584MTX; Manufacturer: National Semiconductor; PackageTopMarking: NSZXYTT*LM658*4MT; PowerWise: N; CompType: Amplifiers; High-Reliability: Y; DatasheetVersion: Mar-2005; PackageVersion: revD, Jun-2003; PackageReference: MTC14; PackageDescription: Molded TSSOP, JEDEC, 5 x 4.4 x 0.9mm Body, 14 Lead, 0.65mm Pitch; RoHS: N; PinCount: 14; Code_JEDEC: MO-153-AB-1; ComponentLink1Description: Manufacturer URL; ComponentLink1URL: http://www.national.com/; ComponentLink2Description: LM6584 Datasheet; ComponentLink2URL: http://www.national.com/ds/LM/LM6584.pdf; ComponentLink3Description: LM6584 Web Page; ComponentLink3URL: http://www.national.com/pf/LM/LM6584.html; ComponentLink4Description: MTC14 Package Page; ComponentLink4URL: http://www.national.com/packaging/folders/mtc14.html
footprint MTC14_N (TSOP, 14-Leads, Body 5x4.4mm, Pitch 0.65mm, IPC Medium Density)
footprint MTC14_L (TSOP, 14-Leads, Body 5x4.4mm, Pitch 0.65mm, IPC High Density)
footprint MTC14_M (TSOP, 14-Leads, Body 5x4.4mm, Pitch 0.65mm, IPC Low Density)
pins on every part: 4 V+ (power), 11 V- (power)
part A pins: 1 OUTA (out), 2 INA- (in), 3 INA+ (in)
part B pins: 5 INB+ (in), 6 INB- (in), 7 OUTB (out)
part C pins: 8 OUTC (out), 9 INC- (in), 10 INC+ (in)
part D pins: 12 IND+ (in), 13 IND- (in), 14 OUTD (out)

## LM6588MA
designator U?
Quad 16 Volt, RRIO High Output Current Operational Amplifier, 14-pin Narrow SOIC; PartNumber: LM6588MA; Manufacturer: National Semiconductor; PackageTopMarking: NSUZXYTTE#*LM6588MA; PowerWise: N; CompType: Amplifiers; High-Reliability: Y; DatasheetVersion: Jul-2005; PackageVersion: revJ, Jan-1996; PackageReference: M14A; PackageDescription: Molded Package S.O., .150in Wide, 14 Lead; RoHS: N; PinCount: 14; Code_JEDEC: MS-012AB; Code_IPC: SOIC127P600-14; ComponentLink1Description: Manufacturer URL; ComponentLink1URL: http://www.national.com/; ComponentLink2Description: LM6588 Datasheet; ComponentLink2URL: http://www.national.com/ds/LM/LM6588.pdf; ComponentLink3Description: LM6588 Web Page; ComponentLink3URL: http://www.national.com/pf/LM/LM6588.html; ComponentLink4Description: M14A Package Page; ComponentLink4URL: http://www.national.com/packaging/folders/m14a.html
footprint M14A_N (SOIC, 14-Leads, Body 8.6x3.9mm, Pitch 1.27mm, IPC Medium Density)
footprint M14A_L (SOIC, 14-Leads, Body 8.6x3.9mm, Pitch 1.27mm, IPC High Density)
footprint M14A_M (SOIC, 14-Leads, Body 8.6x3.9mm, Pitch 1.27mm, IPC Low Density)
pins on every part: 4 V+ (power), 11 V- (power)
part A pins: 1 OUTA (out), 2 INA- (in), 3 INA+ (in)
part B pins: 5 INB+ (in), 6 INB- (in), 7 OUTB (out)
part C pins: 8 OUTC (out), 9 INC- (in), 10 INC+ (in)
part D pins: 12 IND+ (in), 13 IND- (in), 14 OUTD (out)

## LM6588MAX
designator U?
Quad 16 Volt, RRIO High Output Current Operational Amplifier, 14-pin Narrow SOIC; PartNumber: LM6588MAX; Manufacturer: National Semiconductor; PackageTopMarking: NSUZXYTTE#*LM6588MA; PowerWise: N; CompType: Amplifiers; High-Reliability: Y; DatasheetVersion: Jul-2005; PackageVersion: revJ, Jan-1996; PackageReference: M14A; PackageDescription: Molded Package S.O., .150in Wide, 14 Lead; RoHS: N; PinCount: 14; Code_JEDEC: MS-012AB; Code_IPC: SOIC127P600-14; ComponentLink1Description: Manufacturer URL; ComponentLink1URL: http://www.national.com/; ComponentLink2Description: LM6588 Datasheet; ComponentLink2URL: http://www.national.com/ds/LM/LM6588.pdf; ComponentLink3Description: LM6588 Web Page; ComponentLink3URL: http://www.national.com/pf/LM/LM6588.html; ComponentLink4Description: M14A Package Page; ComponentLink4URL: http://www.national.com/packaging/folders/m14a.html
footprint M14A_N (SOIC, 14-Leads, Body 8.6x3.9mm, Pitch 1.27mm, IPC Medium Density)
footprint M14A_L (SOIC, 14-Leads, Body 8.6x3.9mm, Pitch 1.27mm, IPC High Density)
footprint M14A_M (SOIC, 14-Leads, Body 8.6x3.9mm, Pitch 1.27mm, IPC Low Density)
pins on every part: 4 V+ (power), 11 V- (power)
part A pins: 1 OUTA (out), 2 INA- (in), 3 INA+ (in)
part B pins: 5 INB+ (in), 6 INB- (in), 7 OUTB (out)
part C pins: 8 OUTC (out), 9 INC- (in), 10 INC+ (in)
part D pins: 12 IND+ (in), 13 IND- (in), 14 OUTD (out)

## LM6588MT
designator U?
Quad 16 Volt, RRIO High Output Current Operational Amplifier, 14-pin TSSOP; PartNumber: LM6588MT; Manufacturer: National Semiconductor; PackageTopMarking: NSZXYTT*LM658*8MT; PowerWise: N; CompType: Amplifiers; High-Reliability: Y; DatasheetVersion: Jul-2005; PackageVersion: revD, Jun-2003; PackageReference: MTC14; PackageDescription: Molded TSSOP, JEDEC, 5 x 4.4 x 0.9mm Body, 14 Lead, 0.65mm Pitch; RoHS: N; PinCount: 14; Code_JEDEC: MO-153-AB-1; ComponentLink1Description: Manufacturer URL; ComponentLink1URL: http://www.national.com/; ComponentLink2Description: LM6588 Datasheet; ComponentLink2URL: http://www.national.com/ds/LM/LM6588.pdf; ComponentLink3Description: LM6588 Web Page; ComponentLink3URL: http://www.national.com/pf/LM/LM6588.html; ComponentLink4Description: MTC14 Package Page; ComponentLink4URL: http://www.national.com/packaging/folders/mtc14.html
footprint MTC14_N (TSOP, 14-Leads, Body 5x4.4mm, Pitch 0.65mm, IPC Medium Density)
footprint MTC14_L (TSOP, 14-Leads, Body 5x4.4mm, Pitch 0.65mm, IPC High Density)
footprint MTC14_M (TSOP, 14-Leads, Body 5x4.4mm, Pitch 0.65mm, IPC Low Density)
pins on every part: 4 V+ (power), 11 V- (power)
part A pins: 1 OUTA (out), 2 INA- (in), 3 INA+ (in)
part B pins: 5 INB+ (in), 6 INB- (in), 7 OUTB (out)
part C pins: 8 OUTC (out), 9 INC- (in), 10 INC+ (in)
part D pins: 12 IND+ (in), 13 IND- (in), 14 OUTD (out)

## LM6588MT/NOPB
designator U?
Quad 16 Volt, RRIO High Output Current Operational Amplifier, 14-pin TSSOP, Pb-Free; PartNumber: LM6588MT/NOPB; Manufacturer: National Semiconductor; PackageTopMarking: NSZXYTT*LM658*8MT; PowerWise: N; CompType: Amplifiers; High-Reliability: Y; DatasheetVersion: Jul-2005; PackageVersion: revD, Jun-2003; PackageReference: MTC14; PackageDescription: Molded TSSOP, JEDEC, 5 x 4.4 x 0.9mm Body, 14 Lead, 0.65mm Pitch; RoHS: Y; PinCount: 14; Code_JEDEC: MO-153-AB-1; ComponentLink1Description: Manufacturer URL; ComponentLink1URL: http://www.national.com/; ComponentLink2Description: LM6588 Datasheet; ComponentLink2URL: http://www.national.com/ds/LM/LM6588.pdf; ComponentLink3Description: LM6588 Web Page; ComponentLink3URL: http://www.national.com/pf/LM/LM6588.html; ComponentLink4Description: MTC14 Package Page; ComponentLink4URL: http://www.national.com/packaging/folders/mtc14.html
footprint MTC14_N (TSOP, 14-Leads, Body 5x4.4mm, Pitch 0.65mm, IPC Medium Density)
footprint MTC14_L (TSOP, 14-Leads, Body 5x4.4mm, Pitch 0.65mm, IPC High Density)
footprint MTC14_M (TSOP, 14-Leads, Body 5x4.4mm, Pitch 0.65mm, IPC Low Density)
pins on every part: 4 V+ (power), 11 V- (power)
part A pins: 1 OUTA (out), 2 INA- (in), 3 INA+ (in)
part B pins: 5 INB+ (in), 6 INB- (in), 7 OUTB (out)
part C pins: 8 OUTC (out), 9 INC- (in), 10 INC+ (in)
part D pins: 12 IND+ (in), 13 IND- (in), 14 OUTD (out)